# Altium footprint library Diodes.PcbLib: 8 footprints
Each footprint in its own frame and in the unit in brackets; x right, y up, seen from the top. Pads: shape width x height; smd on the part's side, far side on the other; paste and mask are expansions set on the pad; w line width, h text height; cw(c..) or ccw(c..) is an arc to the next point about the centre after c.
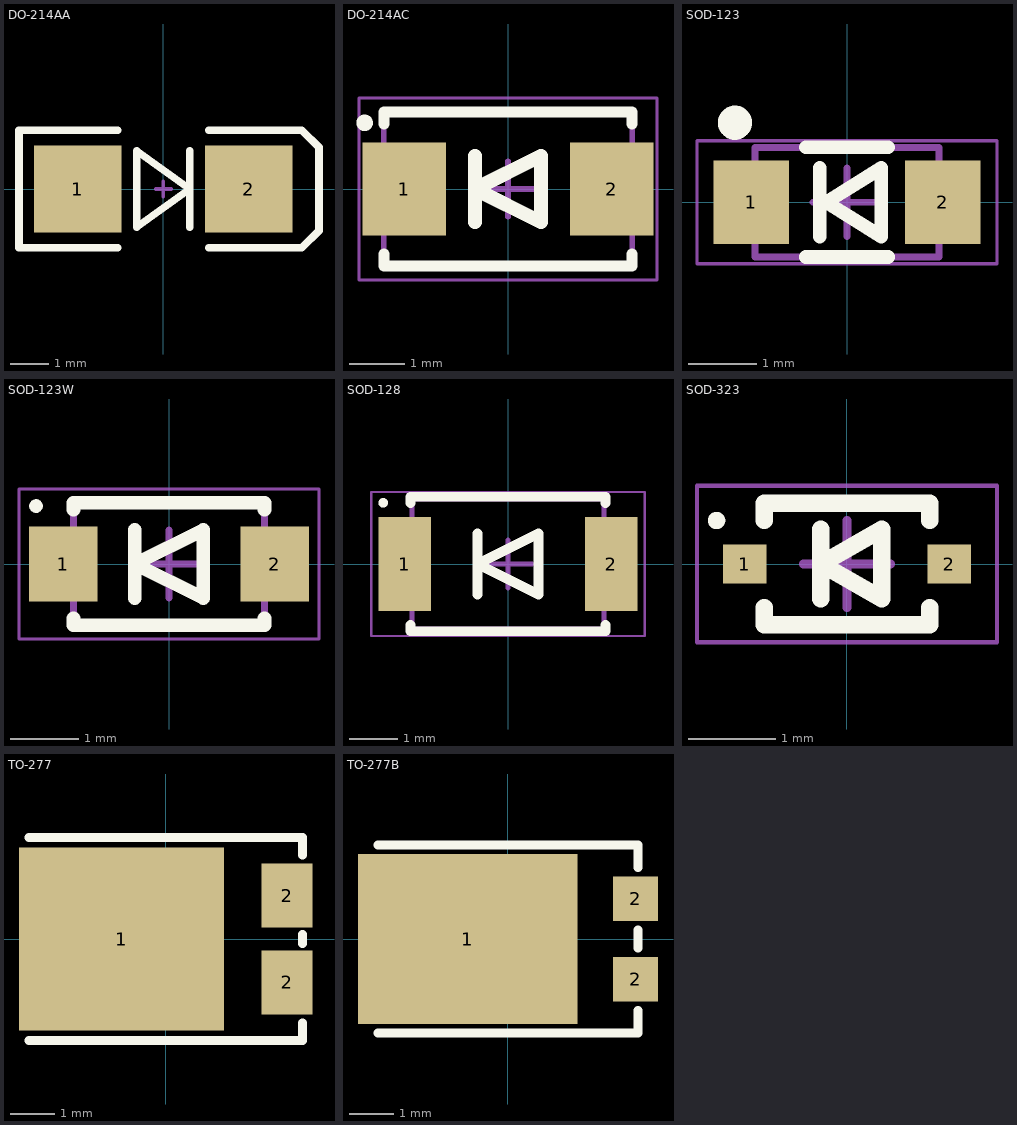
[diagram p0: the footprints below, top view; thin cyan lines are the x and y axes]

## DO-214AA [mm] "DO-214-AA/SMB; 2 C-Bend Leads; Body 5.3 x 3.6 mm, inc. leads (LxW)"
height 2.54
pads (2):
  rect 2.3x2.3 smd: 1(-2.25,0) 2(2.25,0)
Top Overlay:
  lines w0.2: -1.2,-1.55 -3.8,-1.55 -3.8,1.55 -1.2,1.55 ; 0.7,-1 0.7,1 ; 1.2,-1.55 3.65,-1.55 4.1,-1.1 4.1,1.1 3.65,1.55 1.2,1.55 ; -0.7,-1 -0.7,1 0.7,0 -0.7,-1
Mechanical 1:
  lines w0.1: -0.2,0 0.2,0 ; 0,-0.2 0,0.2
3D body "User Library-DIOM5539X24.step": height 2.45, standoff 0.03, extent -2.75,-1.95 2.75,1.95

## DO-214AC [mm] "DO-214AC, 2-Leads, Body 4.5x2.79mm, IPC Medium Density"
height 2.29
pads (2):
  rect 1.52x1.68 smd: 1(-1.88,0) 2(1.88,0)
Top Overlay:
  circle w0.2: c-2.6,1.2 r0.05
  lines w0.2: -2.25,-1.175 -2.25,-1.4 2.25,-1.4 2.25,-1.175 ; -2.25,1.175 -2.25,1.4 2.25,1.4 2.25,1.175
  lines w0.254: -0.6,-0.6 -0.6,0.6 ; -0.6,0 0.6,-0.6 0.6,0.6 -0.6,0
Mechanical 13:
  lines w0.1: -2.25,-1.395 2.25,-1.395 2.25,1.395 -2.25,1.395 -2.25,-1.395
Mechanical 15:
  lines w0.05: -2.7,-1.65 2.7,-1.65 2.7,1.65 -2.7,1.65 -2.7,-1.65
  lines w0.1: -0.5,0 0.5,0 ; 0,-0.5 0,0.5
3D body "User Library-S1G-1.step": height 2.7, standoff 0, extent -2.8,-1.475 2.8,1.475

## SOD-123 [mm] "SOD, 2-Leads, Body 2.69x1.6mm"
height 1.35
pads (2):
  rect 1.1x1.22 smd: 1(-1.4,0) 2(1.4,0)
Top Overlay:
  circle w0.25: c-1.635,1.16 r0.125
  lines w0.2: -0.6,-0.8 0.6,-0.8 ; -0.6,0.8 0.6,0.8 ; -0.4,-0.5 -0.4,0.5 ; -0.3,0 0.5,0.5 0.5,-0.5 -0.3,0
Mechanical 13:
  lines w0.1: -1.345,-0.8 1.345,-0.8 1.345,0.8 -1.345,0.8 -1.345,-0.8
Mechanical 15:
  lines w0.05: -2.19,-0.9 2.19,-0.9 2.19,0.9 -2.19,0.9 -2.19,-0.9
  lines w0.1: -0.5,0 0.5,0 ; 0,-0.5 0,0.5
3D body "SOD123F.STEP": height 1.1, standoff 0, extent -1.75,-0.8 1.75,0.8

## SOD-123W [mm] "SODFL, 2-Leads, Body 1.70x3.50mm, IPC Medium Density"
height 1.1
pads (2):
  rect 1x1.1 smd: 1(-1.55,0) 2(1.55,0)
Top Overlay:
  circle w0.1: c-1.95,0.85 r0.05
  lines w0.2: -1.4,-0.8 -1.4,-0.9 1.4,-0.9 1.4,-0.8 ; -1.4,0.8 -1.4,0.9 1.4,0.9 1.4,0.8 ; -0.5,-0.5 -0.5,0.5 ; -0.5,0 0.5,0.5 0.5,-0.5 -0.5,0
Mechanical 13:
  lines w0.1: -1.4,-0.95 -1.4,0.95 1.4,0.95 1.4,-0.95 -1.4,-0.95
Mechanical 15:
  lines w0.05: -2.2,-1.1 -2.2,1.1 2.2,1.1 2.2,-1.1 -2.2,-1.1
  lines w0.1: -0.5,0 0.5,0 ; 0,-0.5 0,0.5
3D body "SODFL350X110-2N.step": height 1.1, standoff 0, extent -1.75,-0.95 1.75,0.95

## SOD-128 [mm] "SODFL, 2-Leads, Body 2.50x4.70mm, IPC Medium Density"
height 1.1
pads (2):
  rect 1.1x1.95 smd: 1(-2.15,0) 2(2.15,0)
Top Overlay:
  circle w0.1: c-2.6,1.275 r0.05
  lines w0.2: -2.032,-1.27 -2.032,-1.397 2.032,-1.397 2.032,-1.27 ; -2.032,1.27 -2.032,1.397 2.032,1.397 2.032,1.27 ; -0.635,-0.635 -0.635,0.635 ; -0.635,0 0.635,-0.635 0.635,0.635 -0.635,0
Mechanical 13:
  lines w0.1: -2,-1.35 -2,1.35 2,1.35 2,-1.35 -2,-1.35
Mechanical 15:
  lines w0.05: -2.85,-1.5 -2.85,1.5 2.85,1.5 2.85,-1.5 -2.85,-1.5
  lines w0.1: -0.5,0 0.5,0 ; 0,-0.5 0,0.5
3D body "SODFL470X110-2N.step": height 1.1, standoff 0, extent -2.35,-1.35 2.35,1.35

## SOD-323 [mm] "SODFL, 2-Leads, Body 1.30x2.57mm, IPC Medium Density"
height 1.14
pads (2):
  rect 0.5x0.45 smd: 1(-1.175,0) 2(1.175,0)
Top Overlay:
  circle w0.1: c-1.5,0.5 r0.05
  lines w0.2: -0.95,-0.5 -0.95,-0.7 0.95,-0.7 0.95,-0.5 ; -0.95,0.5 -0.95,0.7 0.95,0.7 0.95,0.5 ; -0.3,-0.4 -0.3,0.4 ; -0.3,0 0.4,-0.4 0.4,0.4 -0.3,0
Mechanical 15:
  lines w0.05: -1.725,-0.9 -1.725,0.9 1.725,0.9 1.725,-0.9 -1.725,-0.9
  lines w0.1: -0.5,0 0.5,0 ; 0,-0.5 0,0.5
3D body "User Library-SOD323.step": height 0.98, standoff -0.01, extent -1.25,-0.625 1.25,0.625

## TO-277 [mm]
pads (3):
  rect 4.65x4.15 smd mask+0: 1(-1,0)
  rect 1.15x1.45 smd mask+0: 2(2.75,-0.985) 2(2.75,0.985)
Top Overlay:
  lines w0.2: -3.1,-2.3 3.1,-2.3 3.1,-1.9 ; -3.1,2.3 3.1,2.3 3.1,1.9 ; 3.1,-0.1 3.1,0.1
3D body "TO-277A.step": height 1.2, standoff 0, extent -3.35,-2.375 3.3,2.375

## TO-277B [mm]
pads (3):
  rect 4.9x3.8 smd mask+0: 1(-0.9,0)
  rect 1x1 smd mask+0: 2(2.85,-0.9) 2(2.85,0.9)
Top Overlay:
  lines w0.2: -2.9,-2.1 2.9,-2.1 2.9,-1.6 ; -2.9,2.1 2.9,2.1 2.9,1.6 ; 2.9,-0.2 2.9,0.2
3D body "TO-277A.step": height 1.2, standoff 0, extent -3.3,-2.375 3.35,2.375